# Altium schematic symbol library GameMan_SchLib.SchLib: 20 symbols
Pins are listed as number, name and electrical type; pins without a type are passive.

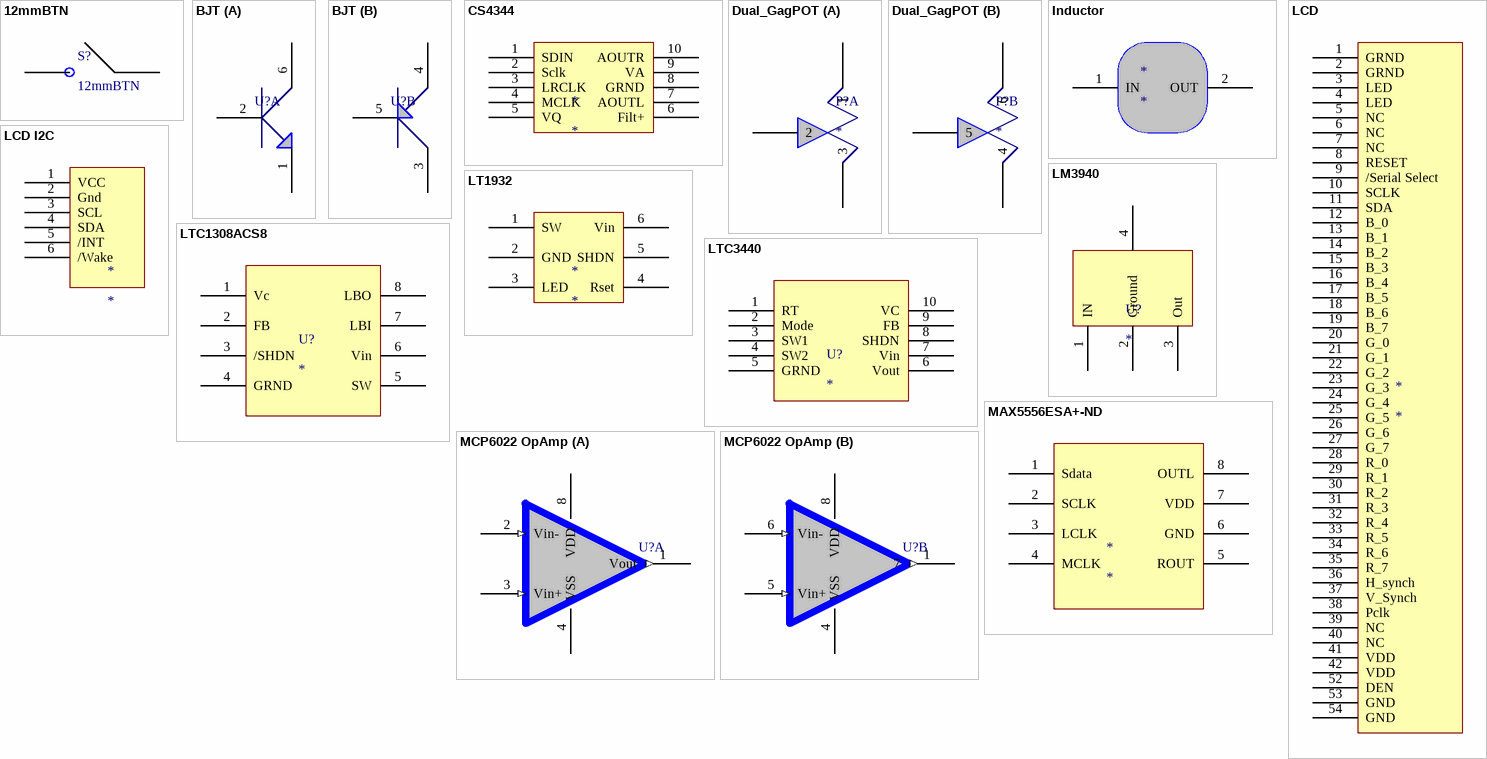
[diagram p0: symbols 12mmBTN to MCP6022 OpAmp]

## 12mmBTN
designator S?
footprint 12mmSwitch
footprint SMT12mmbutton
pins: 0, 1

## BJT
designator U?  (value not drawn)
footprint BJT_SOT6
part A pins: 1 Emitter (power), 2 Base (power), 6 Collector (power)
part B pins: 3 Collector (power), 4 Emitter (power), 5 Base (power)

## CS4344
designator *
footprint TSSOP10 - duplicate1
pins: 1 SDIN "Data In", 2 Sclk "Data Clock", 3 LRCLK "Left/Right selector", 4 MCLK "Master Clock", 5 VQ "Noise Control", 6 Filt+, 7 AOUTL, 8 GRND, 9 VA, 10 AOUTR

## Dual_GagPOT
designator P?
footprint DGPOT
part A pins: ?1 1, ?2 2, ?3 3
part B pins: ? 6, ? 5, ? 4

## Inductor
designator *
footprint Inductor
pins: 1 IN, 2 OUT

## LCD
designator *
footprint Molex54 - duplicate2; pin to pad 1>A1 2>A2 3>A3 4>A4 5>A5 6>A6 7>A7 8>A8 9>A9 10>A10 11>A11 12>A12 13>A13 14>A14 15>A15 16>A16 17>A17 18>A18 19>A19 20>A20 21>A21 22>A22 23>A23 24>A24 25>A25 26>A26 27>A27 28>A28 29>A29 30>A30 31>A31 32>A32 33>A33 34>A34 35>A35 36>A36 37>A37 38>A38 39>A39 40>A40 41>A41 42>A42 52>A52 53>A53 54>A54
pins: 1 GRND, 2 GRND, 3 LED, 4 LED, 5 NC, 6 NC, 7 NC, 8 RESET, 9 /Serial Select, 10 SCLK, 11 SDA, 12 B_0, 13 B_1, 14 B_2, 15 B_3, 16 B_4, 17 B_5, 18 B_6, 19 B_7, 20 G_0, 21 G_1, 22 G_2, 23 G_3, 24 G_4, 25 G_5, 26 G_6, 27 G_7, 28 R_0, 29 R_1, 30 R_2, 31 R_3, 32 R_4, 33 R_5, 34 R_6, 35 R_7, 36 H_synch, 37 V_Synch, 38 Pclk, 39 NC, 40 NC, 41 VDD, 42 VDD, 52 DEN, 53 GND, 54 GND

## LCD I2C
designator *
footprint Molex6
pins: 1 VCC, 2 Gnd, 3 SCL, 4 SDA, 5 /INT, 6 /Wake

## LM3940
designator U?
footprint LDO
pins: 1 IN, 2 Ground, 3 Out, 4 Ground

## LT1932
designator *
footprint SOT6
pins: 1 SW "To Inductor", 2 GND, 3 LED "To Backlight", 4 Rset "To Backlight", 5 SHDN, 6 Vin

## LTC1308ACS8
designator U?
footprint SOP8_LTC1308A
pins: 1 Vc (power), 2 FB (power), 3 /SHDN (power), 4 GRND (power), 5 SW (power), 6 Vin (power), 7 LBI (power), 8 LBO (power)

## LTC3440
designator U?
footprint MS10
pins: 1 RT (power), 2 Mode, 3 SW1, 4 SW2, 5 GRND, 6 Vout, 7 Vin, 8 SHDN, 9 FB, 10 VC

## MAX5556ESA+-ND
designator *
footprint SOIC8_DAC
pins: 1 Sdata, 2 SCLK, 3 LCLK, 4 MCLK, 5 ROUT, 6 GND, 7 VDD, 8 OUTL

## MCP6022 OpAmp
designator U?
footprint SOP8_Opamp
pins on every part: 4 VSS (power), 8 VDD (power)
part A pins: 1 Vout (out), 2 Vin- (in), 3 Vin+ (in)
part B pins: 1 7 (out), 5 Vin+ (in), 6 Vin- (in)

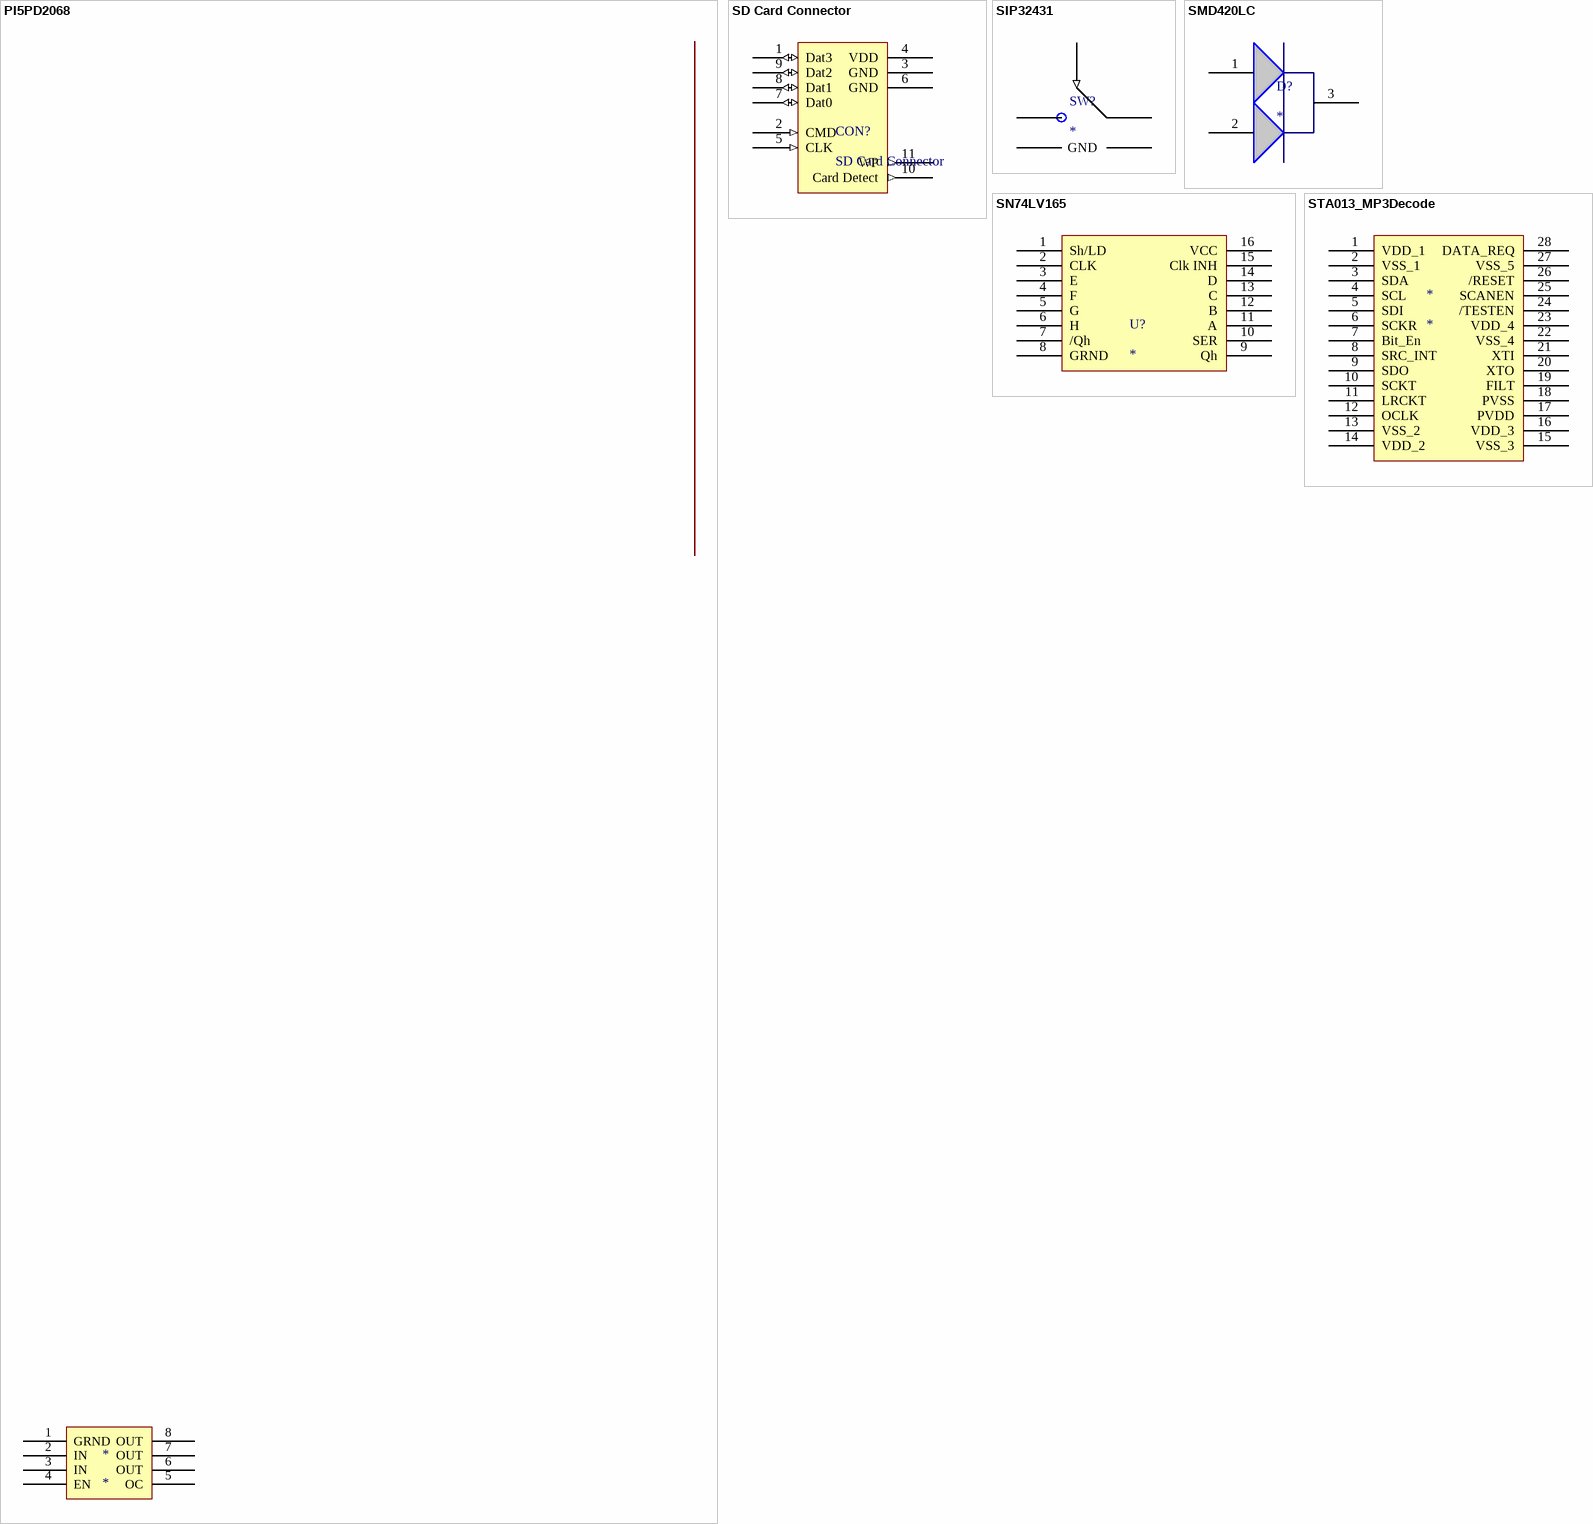
[diagram p1: symbols PI5PD2068 to STA013_MP3Decode]

## PI5PD2068
designator *
footprint SOP8 - duplicate
pins: 1 GRND, 2 IN, 3 IN, 4 EN, 5 OC, 6 OUT, 7 OUT, 8 OUT

## SD Card Connector
designator CON?
3M™ Card Connector SD™
footprint SD_card_fp
pins: 1 Dat3 (io), 2 CMD (in), 3 GND (power) "3.3 Volts", 4 VDD (power) "3.3 Volts", 5 CLK (in), 6 GND (power) "3.3 Volts", 7 Dat0 (io), 8 Dat1 (io), 9 Dat2 (io), 10 Card Detect (out), 11 WP (out)

## SIP32431
designator SW?
footprint SOT6 - duplicate
pins: 1 Out, 2 GND (power), 3 (in), 4 In, 5 GND (power)

## SMD420LC
designator D?
footprint SMD40E20L
pins: 1, 2, 3

## SN74LV165
designator U?
footprint SOP16_Hand
pins: 1 Sh/LD, 2 CLK, 3 E, 4 F, 5 G, 6 H, 7 /Qh, 8 GRND, 9 Qh, 10 SER, 11 A, 12 B, 13 C, 14 D, 15 Clk INH, 16 VCC

## STA013_MP3Decode
designator *
footprint SOP28
pins: 1 VDD_1, 2 VSS_1, 3 SDA, 4 SCL, 5 SDI, 6 SCKR, 7 Bit_En, 8 SRC_INT, 9 SDO, 10 SCKT, 11 LRCKT, 12 OCLK, 13 VSS_2, 14 VDD_2, 15 VSS_3, 16 VDD_3, 17 PVDD, 18 PVSS, 19 FILT, 20 XTO, 21 XTI, 22 VSS_4, 23 VDD_4, 24 /TESTEN, 25 SCANEN, 26 /RESET, 27 VSS_5, 28 DATA_REQ

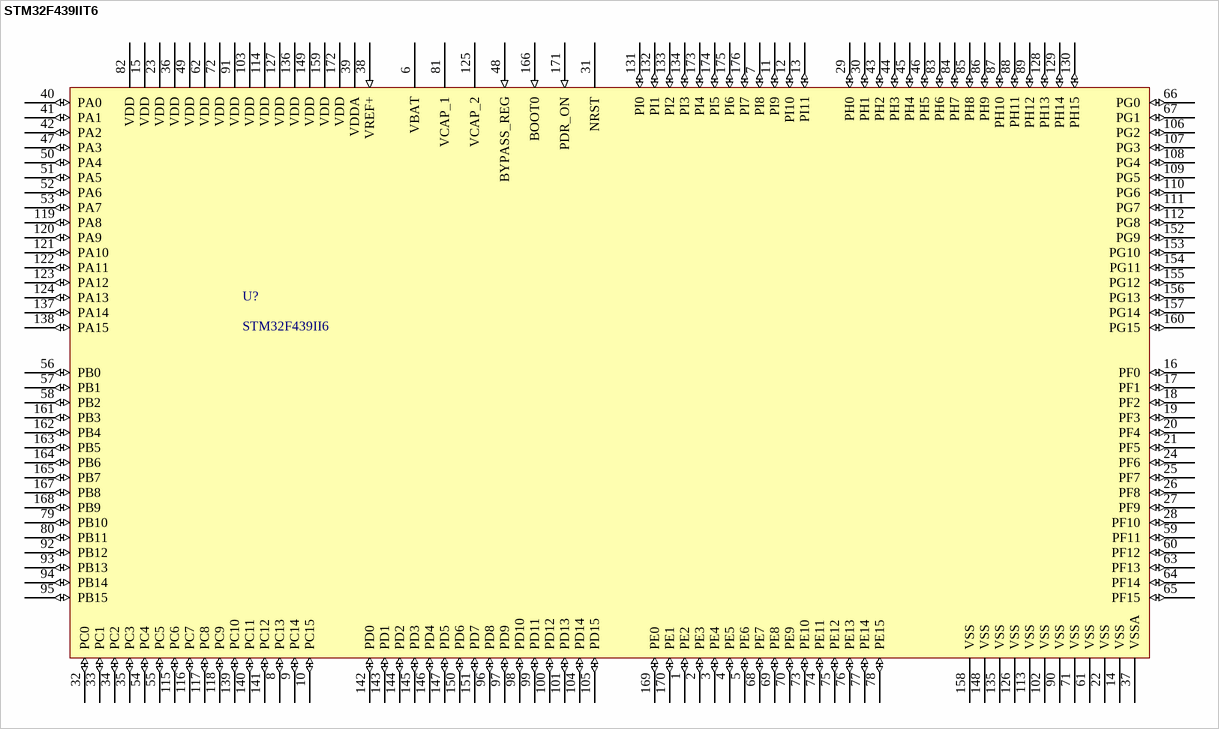
[diagram p2: symbol STM32F439IIT6]

## STM32F439IIT6
designator U?, comment STM32F439II6
Arm Cortex M4 Processor
footprint LQFP76
pins: 1 PE2 (io), 2 PE3 (io), 3 PE4 (io), 4 PE5 (io), 5 PE6 (io), 6 VBAT (power) "Power To special internal volatile ram/regs", 7 PI8 (io), 8 PC13 (io), 9 PC14 (io), 10 PC15 (io), 11 PI9 (io), 12 PI10 (io), 13 PI11 (io), 14 VSS (power), 15 VDD (power), 16 PF0 (io), 17 PF1 (io), 18 PF2 (io), 19 PF3 (io), 20 PF4 (io), 21 PF5 (io), 22 VSS (power), 23 VDD (power), 24 PF6 (io), 25 PF7 (io), 26 PF8 (io), 27 PF9 (io), 28 PF10 (io), 29 PH0 (io), 30 PH1 (io), 31 NRST (power), 32 PC0 (io), 33 PC1 (io), 34 PC2 (io), 35 PC3 (io), 36 VDD (power), 37 VSSA (power) "Analogue Ground", 38 VREF+ (in) "ADC VREF", 39 VDDA (power) "Analogue Power", 40 PA0 (io), 41 PA1 (io), 42 PA2 (io), 43 PH2 (io), 44 PH3 (io), 45 PH4 (io), 46 PH5 (io), 47 PA3 (io), 48 BYPASS_REG (in), 49 VDD (power), 50 PA4 (io), 51 PA5 (io), 52 PA6 (io), 53 PA7 (io), 54 PC4 (io), 55 PC5 (io), 56 PB0 (io), 57 PB1 (io), 58 PB2 (io), 59 PF11 (io), 60 PF12 (io), 61 VSS (power), 62 VDD (power), 63 PF13 (io), 64 PF14 (io), 65 PF15 (io), 66 PG0 (io), 67 PG1 (io), 68 PE7 (io), 69 PE8 (io), 70 PE9 (io), 71 VSS (power), 72 VDD (power), 73 PE10 (io), 74 PE11 (io), 75 PE12 (io), 76 PE13 (io), 77 PE14 (io), 78 PE15 (io), 79 PB10 (io), 80 PB11 (io), 81 VCAP_1, 82 VDD (power), 83 PH6 (io), 84 PH7 (io), 85 PH8 (io), 86 PH9 (io), 87 PH10 (io), 88 PH11 (io), 89 PH12 (io), 90 VSS (power), 91 VDD (power), 92 PB12 (io), 93 PB13 (io), 94 PB14 (io), 95 PB15 (io), 96 PD8 (io), 97 PD9 (io), 98 PD10 (io), 99 PD11 (io), 100 PD12 (io), 101 PD13 (io), 102 VSS (power), 103 VDD (power), 104 PD14 (io), 105 PD15 (io), 106 PG2 (io), 107 PG3 (io), 108 PG4 (io), 109 PG5 (io), 110 PG6 (io), 111 PG7 (io), 112 PG8 (io), 113 VSS (power), 114 VDD (power), 115 PC6 (io), 116 PC7 (io), 117 PC8 (io), 118 PC9 (io), 119 PA8 (io), 120 PA9 (io), 121 PA10 (io), 122 PA11 (io), 123 PA12 (io), 124 PA13 (io), 125 VCAP_2, 126 VSS, 127 VDD, 128 PH13 (io), 129 PH14 (io), 130 PH15 (io), 131 PI0 (io), 132 PI1 (io), 133 PI2 (io), 134 PI3 (io), 135 VSS, 136 VDD, 137 PA14 (io), 138 PA15 (io), 139 PC10 (io), 140 PC11 (io), 141 PC12 (io), 142 PD0 (io), 143 PD1 (io), 144 PD2 (io), 145 PD3 (io), 146 PD4 (io), 147 PD5 (io), 148 VSS, 149 VDD, 150 PD6 (io), 151 PD7 (io), 152 PG9 (io), 153 PG10 (io), 154 PG11 (io), 155 PG12 (io), 156 PG13 (io), 157 PG14 (io), 158 VSS (power), 159 VDD (power), 160 PG15 (io), 161 PB3 (io), 162 PB4 (io), 163 PB5 (io), 164 PB6 (io), 165 PB7 (io), 166 BOOT0 (in), 167 PB8 (io), 168 PB9 (io), 169 PE0 (io), 170 PE1 (io), 171 PDR_ON (in), 172 VDD (power), 173 PI4 (io), 174 PI5 (io), 175 PI6 (io), 176 PI7 (io)